# Altium footprint library Connectors.PcbLib: 147 footprints (part 3 of 10)
Each footprint in its own frame and in the unit in brackets; x right, y up, seen from the top. Pads: shape width x height; smd on the part's side, far side on the other; paste and mask are expansions set on the pad; w line width, h text height; cw(c..) or ccw(c..) is an arc to the next point about the centre after c.
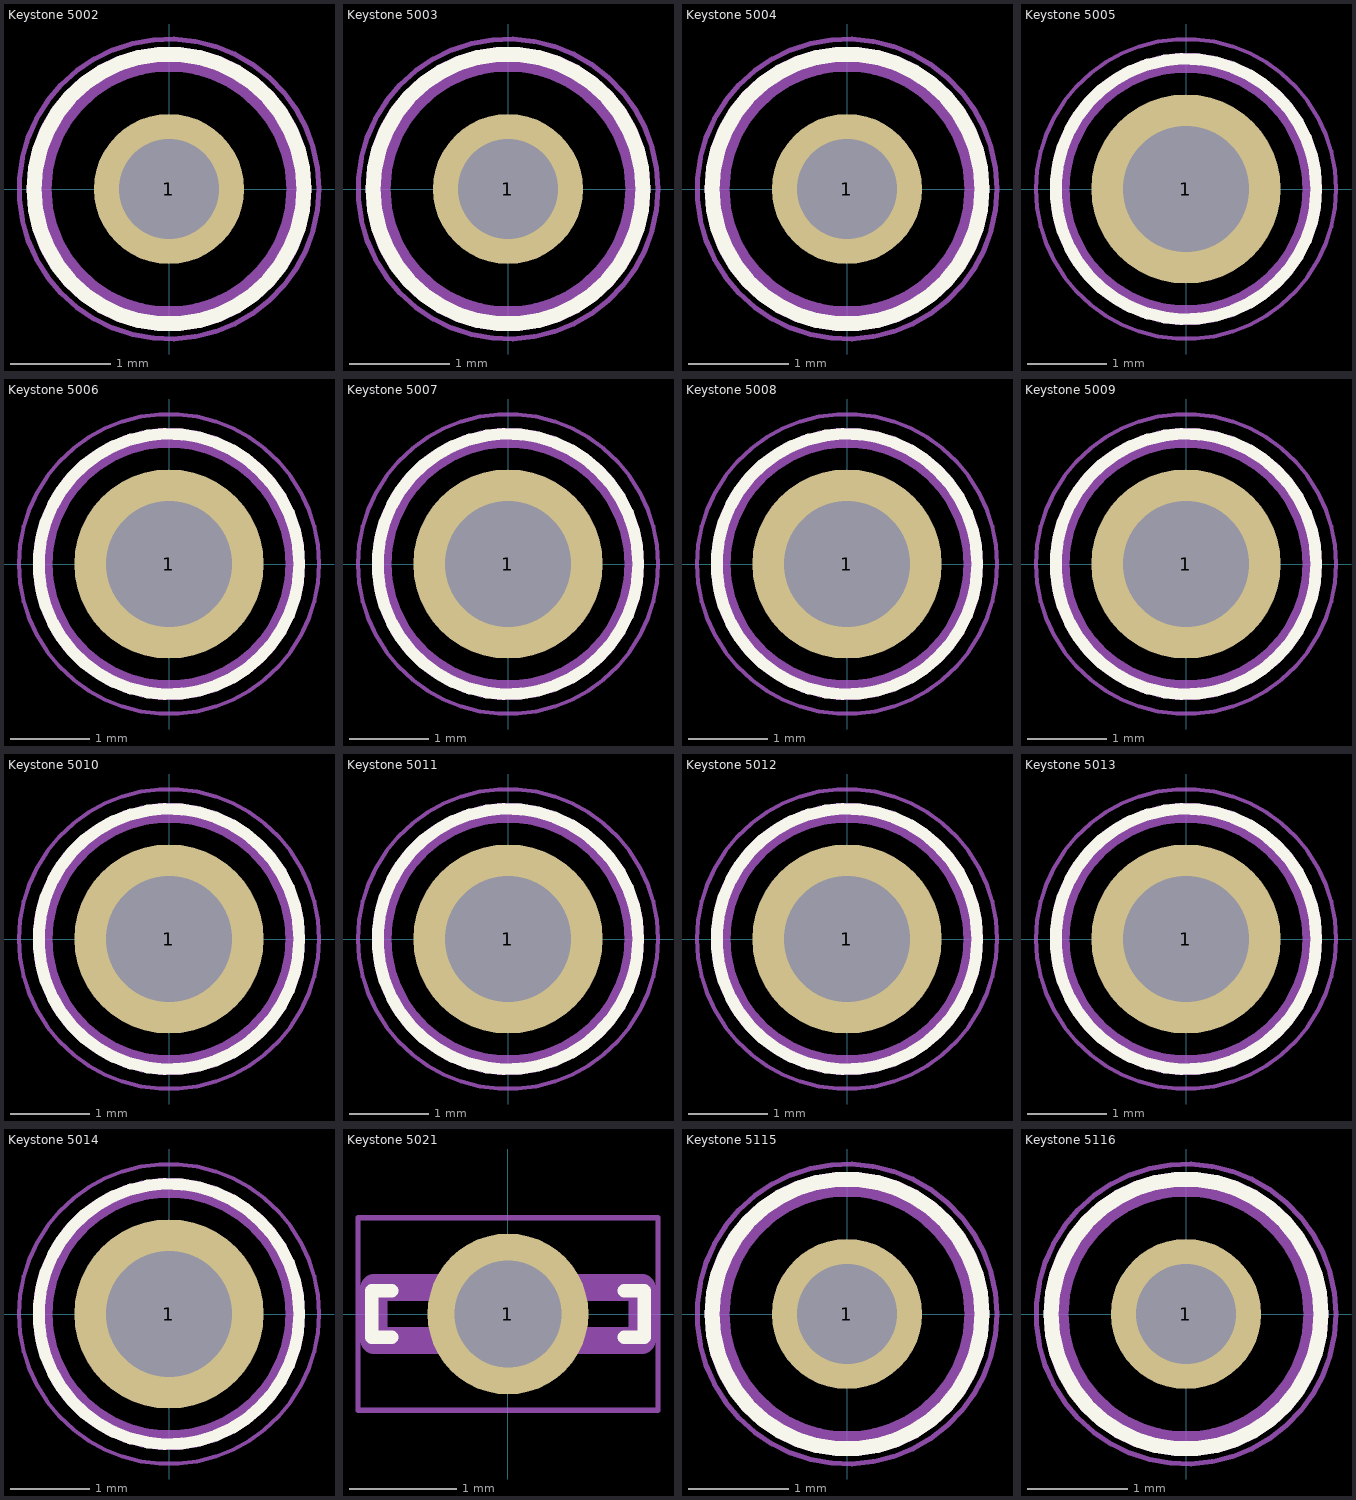
[diagram p2: the footprints below, top view; thin cyan lines are the x and y axes]

## Keystone 5002 [mm] "Thru Hole Mount Test Point, Miniature, .010 (.25) ? .020 (.51) Phosphor Bronze, Silver Plate, Nylon 46, UL Rated 94V-0, .040 (1.0) Diameter, White"
height 4.6
pads (1):
  round 1.5 hole 1: 1(0,0)
Top Overlay:
  circle w0.15: c0,0 r1.35
Top Assembly:
  circle w0.25: c0,0 r1.3
  text ".Designator" at -3.378,-0.339 h1.5
Top Courtyard:
  circle w0.05: c0,0 r0.35
  circle w0.05: c0,0 r1.5
  lines w0.05: -0.5,0 0.5,0 ; 0,-0.5 0,0.5
3D body "5002.STEP": height 4.58, standoff -3.04, extent -1.261,-1.27 1.261,1.27

## Keystone 5003 [mm] "Thru Hole Mount Test Point, Miniature, .010 (.25) ? .020 (.51) Phosphor Bronze, Silver Plate, Nylon 46, UL Rated 94V-0, .040 (1.0) Diameter, Orange"
height 4.6
pads (1):
  round 1.5 hole 1: 1(0,0)
Top Overlay:
  circle w0.15: c0,0 r1.35
Top Assembly:
  circle w0.25: c0,0 r1.3
  text ".Designator" at -3.378,-0.339 h1.5
Top Courtyard:
  circle w0.05: c0,0 r1.5
  circle w0.05: c0,0 r0.35
  lines w0.05: -0.5,0 0.5,0 ; 0,-0.5 0,0.5
3D body "5003--3DModel-STEP-630548.STEP": height 4.58, standoff -3.04, extent -1.261,-1.27 1.261,1.27

## Keystone 5004 [mm] "Thru Hole Mount Test Point, Miniature, .010 (.25) ? .020 (.51) Phosphor Bronze, Silver Plate, Nylon 46, UL Rated 94V-0, .040 (1.0) Diameter, Yellow"
height 4.6
pads (1):
  round 1.5 hole 1: 1(0,0)
Top Overlay:
  circle w0.15: c0,0 r1.35
Top Assembly:
  circle w0.25: c0,0 r1.3
  text ".Designator" at -3.378,-0.339 h1.5
Top Courtyard:
  circle w0.05: c0,0 r0.35
  circle w0.05: c0,0 r1.5
  lines w0.05: -0.5,0 0.5,0 ; 0,-0.5 0,0.5
3D body "5004--3DModel-STEP-630548.STEP": height 4.58, standoff -3.04, extent -1.261,-1.27 1.261,1.27

## Keystone 5005 [mm] "Thru Hole Mount Test Point, Compact, .015 (.38) ? .032 (.81) Phosphor Bronze, Silver Plate, Nylon 46, UL Rated 94V-0, .063 (1.6) Diameter, Red"
height 5.6
pads (1):
  round 2.4 hole 1.6: 1(0,0)
Top Overlay:
  circle w0.15: c0,0 r1.65
Top Assembly:
  circle w0.25: c0,0 r1.6
  text ".Designator" at -3.378,-0.339 h1.5
Top Courtyard:
  circle w0.05: c0,0 r0.35
  circle w0.05: c0,0 r1.9
  lines w0.05: -0.5,0 0.5,0 ; 0,-0.5 0,0.5
3D body "5005.STEP": height 5.59, standoff -3.29, extent -1.576,-1.587 1.576,1.587

## Keystone 5006 [mm] "Thru Hole Mount Test Point, Compact, .015 (.38) ? .032 (.81) Phosphor Bronze, Silver Plate, Nylon 46, UL Rated 94V-0, .063 (1.6) Diameter, Black"
height 5.6
pads (1):
  round 2.4 hole 1.6: 1(0,0)
Top Overlay:
  circle w0.15: c0,0 r1.65
Top Assembly:
  circle w0.25: c0,0 r1.6
  text ".Designator" at -3.378,-0.339 h1.5
Top Courtyard:
  circle w0.05: c0,0 r1.9
  circle w0.05: c0,0 r0.35
  lines w0.05: -0.5,0 0.5,0 ; 0,-0.5 0,0.5
3D body "5006.STEP": height 5.59, standoff -3.29, extent -1.576,-1.587 1.576,1.587

## Keystone 5007 [mm] "Thru Hole Mount Test Point, Compact, .015 (.38) ? .032 (.81) Phosphor Bronze, Silver Plate, Nylon 46, UL Rated 94V-0, .063 (1.6) Diameter, White"
height 5.6
pads (1):
  round 2.4 hole 1.6: 1(0,0)
Top Overlay:
  circle w0.15: c0,0 r1.65
Top Assembly:
  circle w0.25: c0,0 r1.6
  text ".Designator" at -3.378,-0.339 h1.5
Top Courtyard:
  circle w0.05: c0,0 r0.35
  circle w0.05: c0,0 r1.9
  lines w0.05: -0.5,0 0.5,0 ; 0,-0.5 0,0.5
3D body "5007.STEP": height 5.59, standoff -3.29, extent -1.576,-1.587 1.576,1.587

## Keystone 5008 [mm] "Thru Hole Mount Test Point, Compact, .015 (.38) ? .032 (.81) Phosphor Bronze, Silver Plate, Nylon 46, UL Rated 94V-0, .063 (1.6) Diameter, Orange"
height 5.6
pads (1):
  round 2.4 hole 1.6: 1(0,0)
Top Overlay:
  circle w0.15: c0,0 r1.65
Top Assembly:
  circle w0.25: c0,0 r1.6
  text ".Designator" at -3.378,-0.339 h1.5
Top Courtyard:
  circle w0.05: c0,0 r0.35
  circle w0.05: c0,0 r1.9
  lines w0.05: -0.5,0 0.5,0 ; 0,-0.5 0,0.5
3D body "5008.STEP": height 5.59, standoff -3.29, extent -1.576,-1.587 1.576,1.587

## Keystone 5009 [mm] "Thru Hole Mount Test Point, Compact, .015 (.38) ? .032 (.81) Phosphor Bronze, Silver Plate, Nylon 46, UL Rated 94V-0, .063 (1.6) Diameter, Yellow"
height 5.6
pads (1):
  round 2.4 hole 1.6: 1(0,0)
Top Overlay:
  circle w0.15: c0,0 r1.65
Top Assembly:
  circle w0.25: c0,0 r1.6
  text ".Designator" at -3.378,-0.339 h1.5
Top Courtyard:
  circle w0.05: c0,0 r1.9
  circle w0.05: c0,0 r0.35
  lines w0.05: -0.5,0 0.5,0 ; 0,-0.5 0,0.5
3D body "5009.STEP": height 5.59, standoff -3.29, extent -1.576,-1.587 1.576,1.587

## Keystone 5010 [mm] "Thru Hole Mount Test Point, Multipurpose, .015 (.38) ? .032 (.81) Phosphor Bronze, Silver Plate, Nylon 46, UL Rated 94V-0, .063 (1.6) Diameter, Red"
height 8.1
pads (1):
  round 2.4 hole 1.6: 1(0,0)
Top Overlay:
  circle w0.15: c0,0 r1.65
Top Assembly:
  circle w0.25: c0,0 r1.6
  text ".Designator" at -3.378,-0.339 h1.5
Top Courtyard:
  circle w0.05: c0,0 r1.9
  circle w0.05: c0,0 r0.35
  lines w0.05: -0.5,0 0.5,0 ; 0,-0.5 0,0.5
3D body "5010.STEP": height 8.13, standoff -3.54, extent -1.576,-1.587 1.576,1.587

## Keystone 5011 [mm] "Thru Hole Mount Test Point, Multipurpose, .015 (.38) ? .032 (.81) Phosphor Bronze, Silver Plate, Nylon 46, UL Rated 94V-0, .063 (1.6) Diameter, Black"
height 8.1
pads (1):
  round 2.4 hole 1.6: 1(0,0)
Top Overlay:
  circle w0.15: c0,0 r1.65
Top Assembly:
  circle w0.25: c0,0 r1.6
  text ".Designator" at -3.378,-0.339 h1.5
Top Courtyard:
  circle w0.05: c0,0 r1.9
  circle w0.05: c0,0 r0.35
  lines w0.05: -0.5,0 0.5,0 ; 0,-0.5 0,0.5
3D body "5011--3DModel-STEP-630548.STEP": height 8.13, standoff -3.16, extent -1.576,-1.587 1.576,1.587

## Keystone 5012 [mm] "Thru Hole Mount Test Point, Multipurpose, .015 (.38) ? .032 (.81) Phosphor Bronze, Silver Plate, Nylon 46, UL Rated 94V-0, .063 (1.6) Diameter, White"
height 8.1
pads (1):
  round 2.4 hole 1.6: 1(0,0)
Top Overlay:
  circle w0.15: c0,0 r1.65
Top Assembly:
  circle w0.25: c0,0 r1.6
  text ".Designator" at -3.378,-0.339 h1.5
Top Courtyard:
  circle w0.05: c0,0 r1.9
  circle w0.05: c0,0 r0.35
  lines w0.05: -0.5,0 0.5,0 ; 0,-0.5 0,0.5
3D body "5012--3DModel-STEP-630548.STEP": height 8.13, standoff -3.16, extent -1.576,-1.587 1.576,1.587

## Keystone 5013 [mm] "Thru Hole Mount Test Point, Multipurpose, .015 (.38) ? .032 (.81) Phosphor Bronze, Silver Plate, Nylon 46, UL Rated 94V-0, .063 (1.6) Diameter, Orange"
height 8.1
pads (1):
  round 2.4 hole 1.6: 1(0,0)
Top Overlay:
  circle w0.15: c0,0 r1.65
Top Assembly:
  circle w0.25: c0,0 r1.6
  text ".Designator" at -3.378,-0.339 h1.5
Top Courtyard:
  circle w0.05: c0,0 r0.35
  circle w0.05: c0,0 r1.9
  lines w0.05: -0.5,0 0.5,0 ; 0,-0.5 0,0.5
3D body "5013--3DModel-STEP-269445.STEP": height 8.13, standoff -3.54, extent -1.576,-1.587 1.576,1.587

## Keystone 5014 [mm] "Thru Hole Mount Test Point, Multipurpose, .015 (.38) ? .032 (.81) Phosphor Bronze, Silver Plate, Nylon 46, UL Rated 94V-0, .063 (1.6) Diameter, Yellow"
height 8.1
pads (1):
  round 2.4 hole 1.6: 1(0,0)
Top Overlay:
  circle w0.15: c0,0 r1.65
Top Assembly:
  circle w0.25: c0,0 r1.6
  text ".Designator" at -3.378,-0.339 h1.5
Top Courtyard:
  circle w0.05: c0,0 r1.9
  circle w0.05: c0,0 r0.35
  lines w0.05: -0.5,0 0.5,0 ; 0,-0.5 0,0.5
3D body "5014--3DModel-STEP-630548.STEP": height 8.13, standoff -3.16, extent -1.576,-1.587 1.576,1.587

## Keystone 5021 [mm] "Thru Hole Mount Test Point, Ultra Low Profile, Phosphor Bronze Silver plate"
height 2.5
pads (1):
  round 1.5 hole 1: 1(0,0)
Top Overlay:
  lines w0.127: -1.085,-0.216 -1.27,-0.216 -1.27,0.216 -1.085,0.216 ; 1.085,-0.216 1.27,-0.216 1.27,0.216 1.085,0.216
Top Assembly:
  lines w0.25: -1.248,-0.248 1.248,-0.248 1.248,0.248 -1.248,0.248 -1.248,-0.248
  text ".Designator" at -3.378,1.061 h1.5
Top Courtyard:
  circle w0.05: c0,0 r0.35
  lines w0.05: -0.5,0 0.5,0 ; 0,-0.5 0,0.5 ; -1.398,-0.898 1.398,-0.898 1.398,0.898 -1.398,0.898 -1.398,-0.898
3D body "5021--3DModel-STEP-630548.STEP": height 2.56, standoff -2.52, extent -1.268,-0.216 1.268,0.216

## Keystone 5115 [mm] "Thru Hole Mount Test Point, Miniature, .010 (.25) ? .020 (.51) Phosphor Bronze, Silver Plate, Nylon 46, UL Rated 94V-0, .040 (1.0) Diameter, Brown"
height 4.6
pads (1):
  round 1.5 hole 1: 1(0,0)
Top Overlay:
  circle w0.15: c0,0 r1.35
Top Assembly:
  circle w0.25: c0,0 r1.3
  text ".Designator" at -3.378,-0.339 h1.5
Top Courtyard:
  circle w0.05: c0,0 r1.5
  circle w0.05: c0,0 r0.35
  lines w0.05: -0.5,0 0.5,0 ; 0,-0.5 0,0.5
3D body "5115--3DModel-STEP-630548.STEP": height 4.63, standoff -2.99, extent -1.261,-1.27 1.261,1.27

## Keystone 5116 [mm] "Thru Hole Mount Test Point, Miniature, .010 (.25) ? .020 (.51) Phosphor Bronze, Silver Plate, Nylon 46, UL Rated 94V-0, .040 (1.0) Diameter, Green"
height 4.6
pads (1):
  round 1.5 hole 1: 1(0,0)
Top Overlay:
  circle w0.15: c0,0 r1.35
Top Assembly:
  circle w0.25: c0,0 r1.3
  text ".Designator" at -3.378,-0.339 h1.5
Top Courtyard:
  circle w0.05: c0,0 r0.35
  circle w0.05: c0,0 r1.5
  lines w0.05: -0.5,0 0.5,0 ; 0,-0.5 0,0.5
3D body "5116--3DModel-STEP-630548.STEP": height 4.63, standoff -2.99, extent -1.261,-1.27 1.261,1.27